# Altium schematic symbol library Schlib1.SchLib: 10 symbols
Pins are listed as number, name and electrical type; pins without a type are passive.

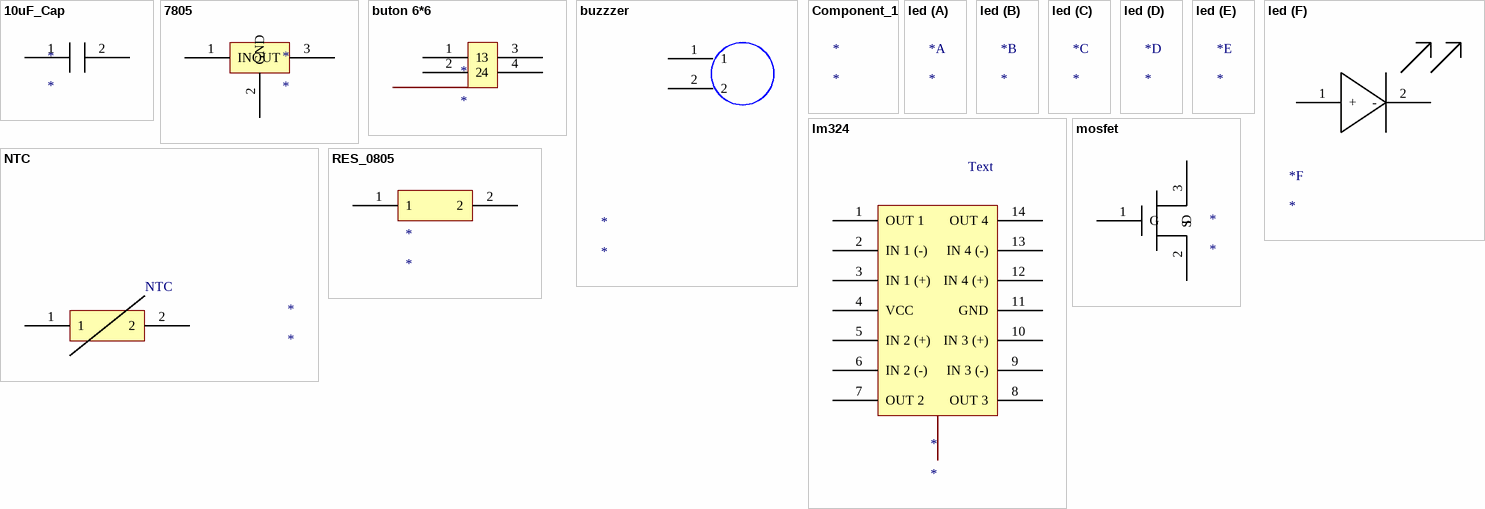
[diagram p0: symbols 10uF_Cap to RES_0805]

## 10uF_Cap
designator *
footprint CAPCP2012X14N (Chip Capacitor, 2-Leads, Body 2,00x1,25mm, IPC Medium Density)
pins: 1, 2

## 7805
designator *
footprint DPAK228P990X238-3N (D-PAK, 3-Pads, Body 6,20x6,72mm (max), IPC Medium Density)
pins: 1 IN, 2 GND, 3 OUT

## buton 6*6
designator *
footprint PCBComponent_1 - duplicate4
pins: 1, 2, 3, 4

## buzzzer
designator *
footprint PCBComponent_1
pins: 1, 2

## Component_1
designator *
footprint SOIC127P600X175-14N (SOIC, 14-Leads, Body 8,65x3,90mm, Pitch 1,27mm, IPC Medium Density)

## led
designator *
footprint DIOC2012X06 (Chip Diode, 2-Leads, Body 2,00x1,25mm, IPC Medium Density)
part F pins: 1 +, 2 -

## lm324
designator *
footprint PCBComponent_1
footprint SOIC127P600X175-14N (SOIC, 14-Leads, Body 8,65x3,90mm, Pitch 1,27mm, IPC Medium Density)
footprint SOIC127P600X175-14N (SOIC, 14-Leads, Body 8,65x3,90mm, Pitch 1,27mm, IPC Medium Density)
pins: 1 OUT 1, 2 IN 1 (-), 3 IN 1 (+), 4 VCC, 5 IN 2 (+), 6 IN 2 (-), 7 OUT 2, 8 OUT 3, 9 IN 3 (-), 10 IN 3 (+), 11 GND, 12 IN 4 (+), 13 IN 4 (-), 14 OUT 4
text: Text

## mosfet
designator *
footprint SOT95P245X110-3N (SOT23, 3-Leads, Body 2,90x2,45mm, Pitch 0,95mm, IPC Medium Density)
footprint SOT95P245X110-3N (SOT23, 3-Leads, Body 2,90x2,45mm, Pitch 0,95mm, IPC Medium Density)
pins: 1 G, 2 S, 3 D

## NTC
designator *
footprint NTC (, 2-Leads, Body 3,20x1,60mm, IPC Medium Density)
pins: 1, 2

## RES_0805
designator *
footprint RESC2012X06N (Chip Resistor, 2-Leads, Body 2,00x1,25mm, IPC Medium Density)
footprint RESC2012X06N (Chip Resistor, 2-Leads, Body 2,00x1,25mm, IPC Medium Density)
pins: 1, 2